# Altium schematic symbol library OPA1644AID.SchLib: 1 symbol
Pins are listed as number, name and electrical type; pins without a type are passive.

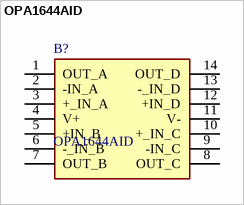
[diagram p0: symbol OPA1644AID]

## OPA1644AID
designator B?
OPA1641/1642/1644 SoundPLUS High-Performance, JFET-Input Audio OpAmps; Manufacturer_Name: Texas Instruments; Geometry.Height: 1.75mm; Manufacturer_Part_Number: OPA1644AID; Mouser Part Number: 595-OPA1644AID; Mouser Price/Stock: https://www.mouser.co.uk/ProductDetail/Texas-Instruments/OPA1644AID?qs=%2Fqzd9s%252BcLd4i%2FOCXbst%2F%252Bw%3D%3D; Arrow Part Number: OPA1644AID; Arrow Price/Stock: https://www.arrow.com/en/products/opa1644aid/texas-instruments?utm_currency=USD&region=nac; Datasheet Link: http://www.ti.com/lit/gpn/opa1644
footprint SOIC127P600X175-14N
pins: 1 OUT_A, 2 -IN_A, 3 +_IN_A, 4 V+, 5 +IN_B, 6 -_IN_B, 7 OUT_B, 8 OUT_C, 9 -IN_C, 10 +_IN_C, 11 V-, 12 +IN_D, 13 -_IN_D, 14 OUT_D